# Altium schematic symbol library Cole_.SchLib: 330 symbols (part 3 of 10)
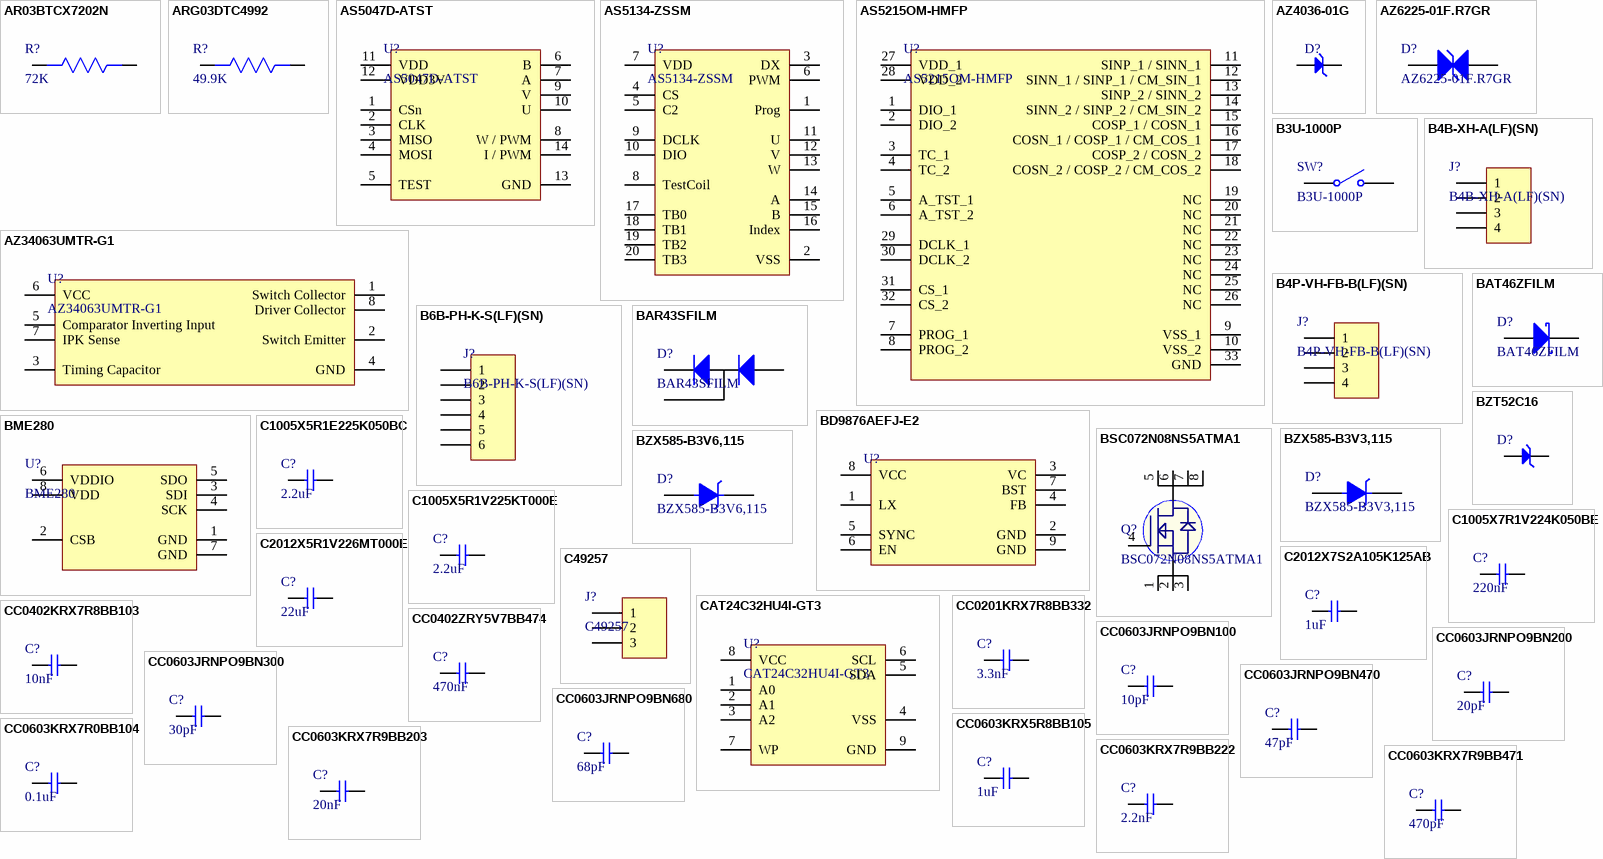
[diagram p10: symbols AR03BTCX7202N to CC0603KRX7R9BB471]

## CC0603KRX7R9BB203
designator C?, comment 20nF
CAP CER 0.02uF 50V X7R 10% SMD 0603 125°C Paper T/R; Manufacturer: Yageo; Manufacturer Part Number: CC0603KRX7R9BB203; Supplier 1: Digi-Key; RoHS: Yes; Category: Ceramic Capacitors; Stock 1: 39135; Pricing 1: 1=0.11000, 10=0.07900, 50=0.04480, 100=0.03720, 500=0.02606, 1000=0.02158 (USD); Mount: Surface Mount; Case/Package: 0603; Min Operating Temperature: -55°C; Max Operating Temperature: 125°C; Voltage Rating: 50V; Voltage Rating (DC): 50V; Capacitance: 20nF; Tolerance: 10%; Packaging: Tape and Reel; Dielectric: X7R; Length: 0.063inch; Width: 0.031inch; Thickness: 0.035inch; Depth: 0.8mm; Lead Free: Lead Free; Halogen Free: Halogen Free; ComponentLink1URL: http://components.arrow.com/part/dataview/0323_00784838?src-supplier=Arrow+Europe; ComponentLink1Description: http://components.arrow.com/part/dataview/0323_00784838?src-supplier=Arrow+Europe; ComponentLink2URL: http://www.yageo.com/documents/recent/UPY-GPHC_X7R_6.3V-to-50V_18.pdf?src-supplier=Digi-Key; ComponentLink2Description: http://www.yageo.com/documents/recent/UPY-GPHC_X7R_6.3V-to-50V_18.pdf?src-supplier=Digi-Key; ComponentLink3URL: http://www.yageo.com/exep/pages/download/literatures/ProductSelectionGuide%202014_Final_2.pdf?src-supplier=Digi-Key; ComponentLink3Description: http://www.yageo.com/exep/pages/download/literatures/ProductSelectionGuide%202014_Final_2.pdf?src-supplier=Digi-Key; Supplier Part Number 1: 311-4099-1-ND
footprint Cap 0603
pins: 1, 2

## CC0603KRX7R9BB222
designator C?, comment 2.2nF
CAP CER 2200PF 50V X7R 0603; Manufacturer: Yageo; Manufacturer Part Number: CC0603KRX7R9BB222; Tolerance: 10%; Insulation Resistance: 10GR; Dissipation Factor: 2.5%; Supplier 1: RSComponents; RoHS: Yes; Category: Ceramic Capacitors; Stock 1: 1; Pricing 1: 4000=0.00500 (USD); Mount: Surface Mount; Case/Package: 0603; Number of Pins: 2; Case Code (Metric): 1608; Case Code (Imperial): 0603; Min Operating Temperature: -55°C; Max Operating Temperature: 125°C; Capacitance: 2.2nF; Dielectric: X7R; Package Quantity: 1; Voltage Rating: 50V; Packaging: Tape and Reel; Voltage Rating (DC): 50V; Termination: SMD/SMT; Resistor Type: Ceramic; Voltage: 50V; Series: CC; Length: 1.6mm; Width: 0.031inch; Height: 0.8mm; Thickness: 0.035inch; Depth: 0.8mm; Radiation Hardening: No; REACH SVHC: No SVHC; Lead Free: Lead Free; Halogen Free: Halogen Free; RoHS Compliant: Yes; ComponentLink1URL: https://datasheet.ciiva.com/23768/1079489-23768004.pdf?src-supplier=Newark; ComponentLink1Description: https://datasheet.ciiva.com/23768/1079489-23768004.pdf?src-supplier=Newark; ComponentLink2URL: https://datasheet.ciiva.com/11788/0900766b8079c870-11788403.pdf?src-supplier=RSComponents; ComponentLink2Description: https://datasheet.ciiva.com/11788/0900766b8079c870-11788403.pdf?src-supplier=RSComponents; ComponentLink3URL: https://datasheet.ciiva.com/26862/getdatasheetpartid-403587-26862854.pdf?src-supplier=Verical; ComponentLink3Description: https://datasheet.ciiva.com/26862/getdatasheetpartid-403587-26862854.pdf?src-supplier=Verical; ComponentLink4URL: https://datasheet.ciiva.com/8033/70765-8033863.pdf?src-supplier=Element14; ComponentLink4Description: https://datasheet.ciiva.com/8033/70765-8033863.pdf?src-supplier=Element14; ComponentLink5URL: https://datasheet.ciiva.com/7978/1489800-7978172.pdf?src-supplier=Element14; ComponentLink5Description: https://datasheet.ciiva.com/7978/1489800-7978172.pdf?src-supplier=Element14; ComponentLink6URL: https://datasheet.ciiva.com/28450/1489800-28450632.pdf?src-supplier=Element14; ComponentLink6Description: https://datasheet.ciiva.com/28450/1489800-28450632.pdf?src-supplier=Element14; ComponentLink7URL: https://datasheet.ciiva.com/155/mlccorderingcode-155921.pdf?src-supplier=Digi-Key; ComponentLink7Description: https://datasheet.ciiva.com/155/mlccorderingcode-155921.pdf?src-supplier=Digi-Key; ComponentLink8URL: https://datasheet.ciiva.com/155/mlccorderingcode-155920.pdf?src-supplier=Digi-Key; ComponentLink8Description: https://datasheet.ciiva.com/155/mlccorderingcode-155920.pdf?src-supplier=Digi-Key; ComponentLink9URL: https://datasheet.ciiva.com/155/mlccorderingcode-155922.pdf?src-supplier=Digi-Key; ComponentLink9Description: https://datasheet.ciiva.com/155/mlccorderingcode-155922.pdf?src-supplier=Digi-Key; ComponentLink10URL: https://datasheet.ciiva.com/8033/1489800-8033864.pdf?src-supplier=Element14; ComponentLink10Description: https://datasheet.ciiva.com/8033/1489800-8033864.pdf?src-supplier=Element14; ComponentLink11URL: https://datasheet.ciiva.com/8033/1489800-8033862.pdf?src-supplier=Element14; ComponentLink11Description: https://datasheet.ciiva.com/8033/1489800-8033862.pdf?src-supplier=Element14; ComponentLink12URL: https://datasheet.ciiva.com/16625/upy-gphc-x7r-6-3v-to-50v-8-16625531.pdf?src-supplier=Avnet+Europe; ComponentLink12Description: https://datasheet.ciiva.com/16625/upy-gphc-x7r-6-3v-to-50v-8-16625531.pdf?src-supplier=Avnet+Europe; Supplier Part Number 1: 6169509
footprint Cap 0603
pins: 1, 2

## CC0603KRX7R9BB471
designator C?, comment 470pF
CAP CER 470pF 10% X7R 50V 0603 SMD; Manufacturer: Yageo; Manufacturer Part Number: CC0603KRX7R9BB471; Dielectric Material: Ceramic; Insulation Resistance: 10GR; Dissipation Factor: 2.5%; Supplier 1: Digi-Key; RoHS: Yes; Category: Ceramic Capacitors; Stock 1: 2173; Pricing 1: 1=0.10000, 10=0.04500, 50=0.02460, 100=0.02010, 500=0.01432, 1000=0.01125 (USD); Mount: Surface Mount; Case/Package: 0603; Number of Pins: 2; Case Code (Imperial): 0603; Case Code (Metric): 1608; Min Operating Temperature: -55°C; Max Operating Temperature: 125°C; Capacitance: 470pF; Tolerance: 10%; Dielectric: X7R; Series: CC; Voltage Rating: 50V; Voltage Rating (DC): 50V; Packaging: Tape and Reel; Package Quantity: 1; Termination: SMD/SMT; Resistor Type: Ceramic; Length: 1.6mm; Width: 0.8mm; Height: 0.8mm; Depth: 0.8mm; Thickness: 0.035inch; Radiation Hardening: No; RoHS Compliant: Yes; REACH SVHC: No SVHC; Lead Free: Lead Free; Halogen Free: Halogen Free; ComponentLink1URL: https://datasheet.ciiva.com/5425/upy-gphc-x7r-6-3v-to-50v-8-12304-5425461.pdf?src-supplier=Mouser; ComponentLink1Description: https://datasheet.ciiva.com/5425/upy-gphc-x7r-6-3v-to-50v-8-12304-5425461.pdf?src-supplier=Mouser; ComponentLink2URL: https://datasheet.ciiva.com/144/mlccorderingcode-144439.pdf?src-supplier=Digi-Key; ComponentLink2Description: https://datasheet.ciiva.com/144/mlccorderingcode-144439.pdf?src-supplier=Digi-Key; ComponentLink3URL: https://datasheet.ciiva.com/144/mlccorderingcode-144440.pdf?src-supplier=Digi-Key; ComponentLink3Description: https://datasheet.ciiva.com/144/mlccorderingcode-144440.pdf?src-supplier=Digi-Key; ComponentLink4URL: https://datasheet.ciiva.com/11587/upy-gphc-x7r-6-3v-to-50v-8-11587224.pdf?src-supplier=Avnet; ComponentLink4Description: https://datasheet.ciiva.com/11587/upy-gphc-x7r-6-3v-to-50v-8-11587224.pdf?src-supplier=Avnet; ComponentLink5URL: https://datasheet.ciiva.com/144/mlccorderingcode-144441.pdf?src-supplier=Digi-Key; ComponentLink5Description: https://datasheet.ciiva.com/144/mlccorderingcode-144441.pdf?src-supplier=Digi-Key; ComponentLink6URL: https://datasheet.ciiva.com/16623/upy-gphc-x7r-6-3v-to-50v-8-16623897.pdf?src-supplier=Avnet+Europe; ComponentLink6Description: https://datasheet.ciiva.com/16623/upy-gphc-x7r-6-3v-to-50v-8-16623897.pdf?src-supplier=Avnet+Europe; ComponentLink7URL: https://datasheet.ciiva.com/8033/1489800-8033898.pdf?src-supplier=Element14; ComponentLink7Description: https://datasheet.ciiva.com/8033/1489800-8033898.pdf?src-supplier=Element14; ComponentLink8URL: https://datasheet.ciiva.com/8033/1489800-8033899.pdf?src-supplier=Element14; ComponentLink8Description: https://datasheet.ciiva.com/8033/1489800-8033899.pdf?src-supplier=Element14; ComponentLink9URL: https://datasheet.ciiva.com/26829/getdatasheetpartid-251791-26829452.pdf?src-supplier=Verical; ComponentLink9Description: https://datasheet.ciiva.com/26829/getdatasheetpartid-251791-26829452.pdf?src-supplier=Verical; ComponentLink10URL: https://datasheet.ciiva.com/28450/1489800-28450652.pdf?src-supplier=Element14; ComponentLink10Description: https://datasheet.ciiva.com/28450/1489800-28450652.pdf?src-supplier=Element14; ComponentLink11URL: https://datasheet.ciiva.com/8033/70765-8033902.pdf?src-supplier=Element14; ComponentLink11Description: https://datasheet.ciiva.com/8033/70765-8033902.pdf?src-supplier=Element14; Supplier Part Number 1: 311-1078-1-ND
footprint Cap 0603
pins: 1, 2

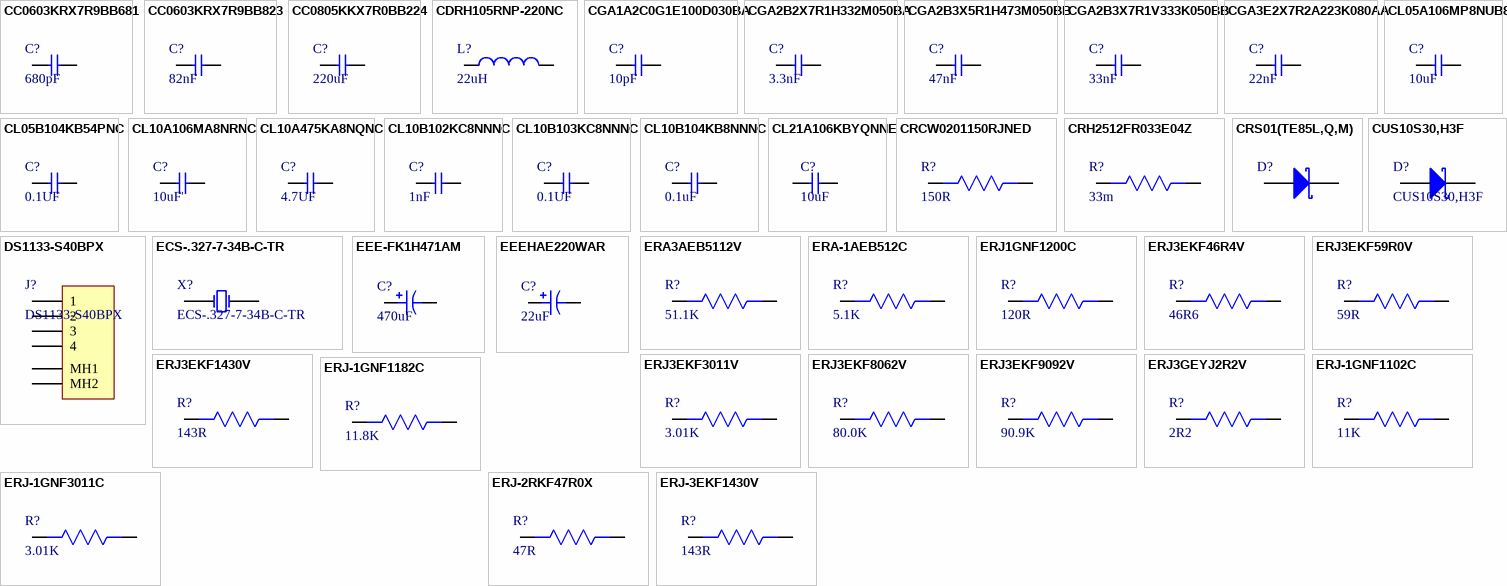
[diagram p2: symbols CC0603KRX7R9BB681 to ERJ-3EKF1430V]

## CC0603KRX7R9BB681
designator C?, comment 680pF
CAP CER 680pF 50 V 0603; Manufacturer: Yageo; Manufacturer Part Number: CC0603KRX7R9BB681; Dielectric Material: Ceramic; Tolerance: 10%; Dielectric: X7R; Voltage Rating: 50V; Insulation Resistance: 100GR; Supplier 1: Digi-Key; RoHS: Yes; Category: Ceramic Capacitors; Stock 1: 134616; Pricing 1: 1=0.10000, 10=0.04700, 50=0.02560, 100=0.02100, 500=0.01498, 1000=0.01176 (USD); Mount: Surface Mount; Case/Package: 0603; Case Code (Imperial): 0603; Case Code (Metric): 1608; Min Operating Temperature: -55°C; Max Operating Temperature: 125°C; Capacitance: 680pF; Voltage Rating (DC): 50V; Packaging: Tape and Reel; Package Quantity: 1; Termination: SMD/SMT; Resistor Type: Ceramic; Voltage: 50V; Series: CC; Length: 1.6mm; Width: 0.8mm; Height: 0.8mm; Thickness: 0.035inch; Depth: 0.8mm; Radiation Hardening: No; REACH SVHC: Unknown; Lead Free: Lead Free; Halogen Free: Halogen Free; RoHS Compliant: Yes; ComponentLink1URL: https://datasheet.ciiva.com/11786/0900766b80d84f1d-11786210.pdf?src-supplier=RSComponents; ComponentLink1Description: https://datasheet.ciiva.com/11786/0900766b80d84f1d-11786210.pdf?src-supplier=RSComponents; ComponentLink2URL: https://datasheet.ciiva.com/144/mlccorderingcode-144469.pdf?src-supplier=Digi-Key; ComponentLink2Description: https://datasheet.ciiva.com/144/mlccorderingcode-144469.pdf?src-supplier=Digi-Key; ComponentLink3URL: https://datasheet.ciiva.com/144/mlccorderingcode-144470.pdf?src-supplier=Digi-Key; ComponentLink3Description: https://datasheet.ciiva.com/144/mlccorderingcode-144470.pdf?src-supplier=Digi-Key; ComponentLink4URL: https://datasheet.ciiva.com/17434/upy-gphc-x7r-6-3v-to-50v-8-17434486.pdf?src-supplier=Avnet+Europe; ComponentLink4Description: https://datasheet.ciiva.com/17434/upy-gphc-x7r-6-3v-to-50v-8-17434486.pdf?src-supplier=Avnet+Europe; ComponentLink5URL: https://datasheet.ciiva.com/144/mlccorderingcode-144471.pdf?src-supplier=Digi-Key; ComponentLink5Description: https://datasheet.ciiva.com/144/mlccorderingcode-144471.pdf?src-supplier=Digi-Key; Supplier Part Number 1: 311-1188-1-ND
footprint Cap 0603
pins: 1, 2

## CC0603KRX7R9BB823
designator C?, comment 82nF
CAP CER 0.082UF 50V X7R 0603; Manufacturer: Yageo; Manufacturer Part Number: CC0603KRX7R9BB823; Tolerance: 10%; Supplier 1: Newark; RoHS: Yes; Category: Ceramic Capacitors; Stock 1: 40000; Pricing 1: 1=0.01500, 4000=0.01400, 8000=0.01400 (USD); Mount: Surface Mount; Case/Package: 0603; Case Code (Imperial): 0603; Case Code (Metric): 1608; Weight: 7.1E-05oz; Min Operating Temperature: -55°C; Max Operating Temperature: 125°C; Packaging: Tape and Reel; Capacitance: 82nF; Voltage Rating (DC): 50V; Dielectric: X7R; Voltage Rating: 50V; Termination: SMD/SMT; Resistor Type: Ceramic; Series: CC; Length: 1.6mm; Width: 0.031inch; Thickness: 0.035inch; Depth: 0.8mm; Radiation Hardening: No; Lead Free: Lead Free; Halogen Free: Halogen Free; RoHS Compliant: Yes; ComponentLink1URL: https://datasheet.ciiva.com/13264/upy-gphc-x7r-6-3v-to-50v-8-12304-13264057.pdf?src-supplier=Mouser; ComponentLink1Description: https://datasheet.ciiva.com/13264/upy-gphc-x7r-6-3v-to-50v-8-12304-13264057.pdf?src-supplier=Mouser; Supplier Part Number 1: 69AH7269
footprint Cap 0603
pins: 1, 2

## CC0805KKX7R0BB224
designator C?, comment 220uF
CAP CER 0.22UF 100V X7R 0805; Manufacturer: Yageo; Manufacturer Part Number: CC0805KKX7R0BB224; Capacitance: 220nF; Tolerance: 10%; Supplier 1: Digi-Key; RoHS: Yes; Category: Ceramic Capacitors; Stock 1: 27325; Pricing 1: 1=0.31000, 10=0.21000, 50=0.13980, 100=0.11890, 500=0.08390, 1000=0.07342 (USD); Mount: Surface Mount; Case/Package: 0805; Case Code (Metric): 2012; Case Code (Imperial): 0805; Weight: 0.000194oz; Min Operating Temperature: -55°C; Max Operating Temperature: 125°C; Packaging: Tape and Reel; Voltage Rating: 100V; Dielectric: X7R; Termination: SMD/SMT; Resistor Type: Ceramic; Voltage Rating (DC): 100V; Package Quantity: 3000; Length: 0.079inch; Width: 0.049inch; Thickness: 0.028inch; RoHS Compliant: Yes; ComponentLink1URL: http://www.mouser.com/ds/2/447/Yageo_UPY-GP_NP0_16V-to-50V_9-358835.pdf?src-supplier=Mouser; ComponentLink1Description: http://www.mouser.com/ds/2/447/Yageo_UPY-GP_NP0_16V-to-50V_9-358835.pdf?src-supplier=Mouser; ComponentLink2URL: https://media.digikey.com/pdf/Data%20Sheets/Yageo%20PDFs/NPO,%20X7R%20Mid-voltage.pdf?src-supplier=Digi-Key; ComponentLink2Description: https://media.digikey.com/pdf/Data%20Sheets/Yageo%20PDFs/NPO,%20X7R%20Mid-voltage.pdf?src-supplier=Digi-Key; ComponentLink3URL: http://www.yageo.com/documents/recent/UPY-NP0X7R_MV_100-to-630V_21.pdf?src-supplier=Digi-Key; ComponentLink3Description: http://www.yageo.com/documents/recent/UPY-NP0X7R_MV_100-to-630V_21.pdf?src-supplier=Digi-Key; Supplier Part Number 1: 311-1874-1-ND
footprint Cap0805 (SMD 0805)
pins: 1, 2

## CDRH105RNP-220NC
designator L?, comment 22uH
IND SMD 22uH 30% 100KHz Ferrite 3.3AA Carrier T/R; Manufacturer: Sumida; Manufacturer Part Number: CDRH105RNP-220NC; Shielding: Shielded; Current Rating: 2.9A; Saturation Current: 2.95A; DC Resistance (DCR): 61mR; Supplier 1: Avnet; RoHS: Yes; Category: Fixed Inductors; Stock 1: 9500; Pricing 1: 500=0.75567, 1000=0.74988, 2000=0.74408, 3000=0.74215, 4000=0.74022, 5000=0.73752, 50000=0.73405 (USD); Mount: Surface Mount; Case/Package: Nonstandard; Core Material: Ferrite; Weight: 0.063493oz; Min Operating Temperature: -40°C; Max Operating Temperature: 100°C; Packaging: Tape and Reel; Tolerance: 30%; Inductance: 22uH; Test Frequency: 100kHz; Max DC Current: 2.9A; Termination: SMD/SMT; Series: CDRH105R; Length: 0.402inch; Width: 0.394inch; Height: 5.1mm; Height - Seated (Max): 0.201inch; Depth: 10.3mm; Radiation Hardening: No; Lead Free: Lead Free; RoHS Compliant: Yes; ComponentLink1URL: http://www.mouser.com/ds/2/390/CDRH105R-465909.pdf?src-supplier=Mouser; ComponentLink1Description: http://www.mouser.com/ds/2/390/CDRH105R-465909.pdf?src-supplier=Mouser; ComponentLink2URL: http://products.sumida.com/products/pdf/CDRH105R.pdf?src-supplier=Digi-Key; ComponentLink2Description: http://products.sumida.com/products/pdf/CDRH105R.pdf?src-supplier=Digi-Key; ComponentLink3URL: http://www.sumida.com/products/pdf/CDRH105R.pdf?src-supplier=Avnet; ComponentLink3Description: http://www.sumida.com/products/pdf/CDRH105R.pdf?src-supplier=Avnet; Supplier Part Number 1: CDRH105RNP-220NC
footprint CDRH105RNP-220NC
pins: 1, 2

## CGA1A2C0G1E100D030BA
designator C?, comment 10pF
CAP CER 10PF 25V C0G 0201; Manufacturer: TDK; Manufacturer Part Number: CGA1A2C0G1E100D030BA; Supplier 1: Digi-Key; RoHS: Yes; Category: Ceramic Capacitors; Stock 1: 28695; Pricing 1: 1=0.11000, 10=0.07900, 50=0.04340, 100=0.03540, 500=0.02530, 1000=0.01987, 2500=0.01807, 5000=0.01662 (USD); Mount: Surface Mount; Case/Package: 0201; Case Code (Imperial): 0201; Case Code (Metric): 0603; Weight: 6E-06oz; Min Operating Temperature: -55°C; Max Operating Temperature: 125°C; Packaging: Tape and Reel; Capacitance: 10pF; Voltage Rating: 25V; Termination: SMD/SMT; Voltage Rating (DC): 25V; Package Quantity: 1; Dielectric: C0G; Resistor Type: Ceramic; Series: CGA; Length: 0.6mm; Width: 0.3mm; Height: 0.3mm; Thickness: 0.013inch; Depth: 0.3mm; Ratings: AEC-Q200; RoHS Compliant: Yes; ComponentLink1URL: https://datasheet.ciiva.com/24220/cga1a2c0g1e100d030ba-271838-24220873.pdf?src-supplier=Mouser; ComponentLink1Description: https://datasheet.ciiva.com/24220/cga1a2c0g1e100d030ba-271838-24220873.pdf?src-supplier=Mouser; Supplier Part Number 1: 445-9023-1-ND
footprint CAP 0201
pins: 1, 2

## CGA2B2X7R1H332M050BA
designator C?, comment 3.3nF
CAP CER 3300PF 50V X7R 0402; Manufacturer: TDK; Manufacturer Part Number: CGA2B2X7R1H332M050BA; Tolerance: 20%; Supplier 1: Digi-Key; RoHS: Yes; Category: Ceramic Capacitors; Stock 1: 30365; Pricing 1: 1=0.10000, 10=0.05400, 50=0.02960, 100=0.02430, 500=0.01732, 1000=0.01361, 2500=0.01238, 5000=0.01138 (USD); Mount: Surface Mount; Case/Package: 0402; Case Code (Metric): 1005; Case Code (Imperial): 0402; Min Operating Temperature: -55°C; Max Operating Temperature: 125°C; Package Quantity: 10000; Packaging: Tape and Reel; Capacitance: 3.3nF; Voltage Rating: 50V; Series: CGA; Length: 0.039inch; Width: 0.02inch; Thickness: 0.022inch; Ratings: AEC-Q200; RoHS Compliant: Yes; ComponentLink1URL: https://product.tdk.com/info/en/documents/chara_sheet/CGA2B2X7R1H332M050BA.pdf?src-supplier=Digi-Key; ComponentLink1Description: https://product.tdk.com/info/en/documents/chara_sheet/CGA2B2X7R1H332M050BA.pdf?src-supplier=Digi-Key; ComponentLink2URL: https://product.tdk.com/info/en/catalog/datasheets/mlcc_automotive_general_en.pdf?src-supplier=Digi-Key; ComponentLink2Description: https://product.tdk.com/info/en/catalog/datasheets/mlcc_automotive_general_en.pdf?src-supplier=Digi-Key; ComponentLink3URL: http://product.tdk.com/en/catalog/datasheets/mlcc_automotive_general_en.pdf?src-supplier=Avnet; ComponentLink3Description: http://product.tdk.com/en/catalog/datasheets/mlcc_automotive_general_en.pdf?src-supplier=Avnet; Supplier Part Number 1: 445-12276-1-ND
footprint Cap 0402
pins: 1, 2

## CGA2B3X5R1H473M050BB
designator C?, comment 47nF
CAP CER 0.047UF 50V X5R 0402; Manufacturer: TDK; Manufacturer Part Number: CGA2B3X5R1H473M050BB; Tolerance: 20%; Supplier 1: Digi-Key; RoHS: Yes; Category: Ceramic Capacitors; Stock 1: 10614; Pricing 1: 1=0.10000, 10=0.06800, 50=0.03700, 100=0.03020, 500=0.02156, 1000=0.01694, 2500=0.01540, 5000=0.01417 (USD); Mount: Surface Mount; Case/Package: 0402; Case Code (Metric): 1005; Case Code (Imperial): 0402; Weight: 2.3E-05oz; Min Operating Temperature: -55°C; Max Operating Temperature: 85°C; Package Quantity: 10000; Packaging: Tape and Reel; Capacitance: 47nF; Voltage Rating: 50V; Dielectric: X5R; Voltage Rating (DC): 50V; Series: CGA; Length: 0.039inch; Width: 0.5mm; Height: 0.5mm; Thickness: 0.022inch; Ratings: AEC-Q200; RoHS Compliant: Yes; ComponentLink1URL: http://www.mouser.com/ds/2/400/lcc_automotive_general_en-843974.pdf?src-supplier=Mouser; ComponentLink1Description: http://www.mouser.com/ds/2/400/lcc_automotive_general_en-843974.pdf?src-supplier=Mouser; ComponentLink2URL: https://product.tdk.com/info/en/catalog/datasheets/mlcc_automotive_general_en.pdf?src-supplier=Digi-Key; ComponentLink2Description: https://product.tdk.com/info/en/catalog/datasheets/mlcc_automotive_general_en.pdf?src-supplier=Digi-Key; ComponentLink3URL: http://product.tdk.com/en/catalog/datasheets/mlcc_automotive_general_en.pdf?src-supplier=Avnet; ComponentLink3Description: http://product.tdk.com/en/catalog/datasheets/mlcc_automotive_general_en.pdf?src-supplier=Avnet; Supplier Part Number 1: 445-12210-1-ND
footprint Cap 0402
pins: 1, 2

## CGA2B3X7R1V333K050BB
designator C?, comment 33nF
CAP CER 0.033UF 35V X7R 0402; Manufacturer: TDK; Manufacturer Part Number: CGA2B3X7R1V333K050BB; Tolerance: 10%; Item Type: Capacitor; Supplier: Digi-Key; Supplier Part Number: 445-12258-1-ND; RoHS: Yes; Category: Ceramic Capacitors; Stock: 24079; Pricing: 1=0.1, 10=0.07, 50=0.0402, 100=0.0311, 500=0.02344, 1000=0.01841, 2500=0.01674, 5000=0.0154 (USD); Mounting Technology: Surface Mount; Case/Package: 0402; Case Code (Metric): 1005; Case Code (Imperial): 0402; Min Operating Temperature: -55°C; Max Operating Temperature: 125°C; Package Quantity: 10000; Packaging: Cut Tape; Value: 33nF; Voltage Rating: 35V; Series: CGA; Length: 0.039inch; Width: 0.02inch; Thickness: 0.022inch; Ratings: AEC-Q200; RoHS Compliant: Yes; ComponentLink1URL: https://product.tdk.com/info/en/catalog/datasheets/mlcc_automotive_general_en.pdf?src-supplier=Digi-Key; ComponentLink1Description: https://product.tdk.com/info/en/catalog/datasheets/mlcc_automotive_general_en.pdf?src-supplier=Digi-Key; ComponentLink2URL: https://product.tdk.com/info/en/documents/chara_sheet/CGA2B3X7R1V333K050BB.pdf?src-supplier=Digi-Key; ComponentLink2Description: https://product.tdk.com/info/en/documents/chara_sheet/CGA2B3X7R1V333K050BB.pdf?src-supplier=Digi-Key; ComponentLink3URL: http://product.tdk.com/en/catalog/datasheets/mlcc_automotive_general_en.pdf?src-supplier=Avnet; ComponentLink3Description: http://product.tdk.com/en/catalog/datasheets/mlcc_automotive_general_en.pdf?src-supplier=Avnet; LCSC Part Number: C3871248
footprint Cap 0402
pins: 1, 2

## CGA3E2X7R2A223K080AA
designator C?, comment 22nF
CAP CER 0.022UF 100V X7R 0603; Manufacturer: TDK; Manufacturer Part Number: CGA3E2X7R2A223K080AA; Tolerance: 10%; Supplier 1: Digi-Key; RoHS: Yes; Category: Ceramic Capacitors; Stock 1: 56079; Pricing 1: 1=0.11000, 10=0.07600, 50=0.04340, 100=0.03590, 500=0.02516, 1000=0.02083 (USD); Mount: Surface Mount; Case/Package: 0603; Case Code (Metric): 1608; Case Code (Imperial): 0603; Weight: 7.1E-05oz; Min Operating Temperature: -55°C; Max Operating Temperature: 125°C; Capacitance: 22nF; Voltage Rating: 100V; Packaging: Tape and Reel; Voltage Rating (DC): 100V; Dielectric: X7R; Termination: SMD/SMT; Series: CGA; Package Quantity: 1; Resistor Type: Ceramic; Length: 1.6mm; Width: 0.031inch; Height: 0.8mm; Thickness: 0.035inch; Depth: 0.8mm; Ratings: AEC-Q200; RoHS Compliant: Yes; REACH SVHC: No SVHC; ComponentLink1URL: https://datasheet.ciiva.com/22725/1735406-22725648.pdf?src-supplier=Element14; ComponentLink1Description: https://datasheet.ciiva.com/22725/1735406-22725648.pdf?src-supplier=Element14; ComponentLink2URL: https://datasheet.ciiva.com/24218/cga3e2x7r2a223k080aa-266292-24218959.pdf?src-supplier=Mouser; ComponentLink2Description: https://datasheet.ciiva.com/24218/cga3e2x7r2a223k080aa-266292-24218959.pdf?src-supplier=Mouser; ComponentLink3URL: https://datasheet.ciiva.com/7975/1807242-7975349.pdf?src-supplier=Element14; ComponentLink3Description: https://datasheet.ciiva.com/7975/1807242-7975349.pdf?src-supplier=Element14; Supplier Part Number 1: 445-5814-1-ND
footprint Cap 0603
pins: 1, 2

## CL05A106MP8NUB8
designator C?, comment 10uF
CAP CER 10UF 10V X5R 0402; Manufacturer: Samsung; Manufacturer Part Number: CL05A106MP8NUB8; Tolerance: 20%; Supplier 1: Digi-Key; Stock 1: 1158256; Pricing 1: 1=0.45, 10=0.311, 100=0.1863, 500=0.13972, 1000=0.11799, 2500=0.11178 (USD); Mount: Surface Mount; Case/Package: 0402; Case Code (Metric): 1005; Case Code (Imperial): 0402; Min Operating Temperature: -55°C; Max Operating Temperature: 85°C; Packaging: Tape and Reel; Capacitance: 10uF; Voltage Rating: 10V; Length: 0.039inch; Width: 0.02inch; Thickness: 0.035inch; Supplier Part Number 1: 1276-6830-1-ND
footprint Cap 0402
pins: 1, 2

## CL05B104KB54PNC
designator C?, comment 0.1UF
CAP CER 0.1UF 50V X7R 0402; Manufacturer: Samsung; Manufacturer Part Number: CL05B104KB54PNC; Supplier 1: Digi-Key; Stock 1: 8594; Pricing 1: 1=0.1, 10=0.067, 50=0.0366, 100=0.0299, 500=0.02138, 1000=0.01681, 2500=0.01528, 5000=0.01406 (USD); Supplier Part Number 1: 1276-CL05B104KB54PNCDKR-ND
footprint Cap 0402
pins: 1, 2

## CL10A106MA8NRNC
designator C?, comment 10uF'
CAP CER 10UF 25V X5R 0603; Manufacturer: Samsung; Manufacturer Part Number: CL10A106MA8NRNC; Tolerance: 20%; Supplier 1: Avnet; RoHS: Yes; Category: Ceramic Capacitors; Pricing 1: 4000=0.03753, 8000=0.03700, 16000=0.03595, 24000=0.03515, 32000=0.03383, 40000=0.03304, 400000=0.03225 (USD); Mount: Surface Mount; Case/Package: 0603; Case Code (Metric): 1608; Case Code (Imperial): 0603; Contact Plating: Tin; Min Operating Temperature: -55°C; Max Operating Temperature: 85°C; Package Quantity: 1; Packaging: Tape and Reel; Capacitance: 10uF; Voltage Rating: 25V; Dielectric: X5R; Termination: Wraparound; Series: CL; Construction: Flat; Length: 0.063inch; Width: 0.031inch; Thickness: 0.035inch; Lead Free: Lead Free; RoHS Compliant: Yes; ComponentLink1URL: https://datasheet.ciiva.com/25766/cl10a106ma8nrnc-25766562.pdf?src-supplier=Digi-Key; ComponentLink1Description: https://datasheet.ciiva.com/25766/cl10a106ma8nrnc-25766562.pdf?src-supplier=Digi-Key; Supplier Part Number 1: CL10A106MA8NRNC
footprint Cap 0603
pins: 1, 2

## CL10A475KA8NQNC
designator C?, comment 4.7UF
CAP CER 4.7UF 25V X5R 0603; Manufacturer: Samsung; Manufacturer Part Number: CL10A475KA8NQNC; Tolerance: 10%; Supplier 1: Digi-Key; Stock 1: 2252340; Pricing 1: 1=0.37, 10=0.255, 100=0.1528, 500=0.11456, 1000=0.09675 (USD); Mount: Surface Mount; Case/Package: 0603; Case Code (Metric): 1608; Case Code (Imperial): 0603; Contact Plating: Tin; Min Operating Temperature: -55°C; Max Operating Temperature: 85°C; Package Quantity: 1; Packaging: Tape and Reel; Capacitance: 4.7uF; Voltage Rating: 25V; Dielectric: X5R; Termination: Wraparound; Length: 1.6mm; Width: 0.031inch; Thickness: 0.035inch; Depth: 0.8mm; Lead Free: Lead Free; ComponentLink1URL: http://www.samsungsem.com/kr/support/product-search/mlcc/CL10A475KA8NQNC.jsp?src-supplier=Digi-Key; ComponentLink1Description: http://www.samsungsem.com/kr/support/product-search/mlcc/CL10A475KA8NQNC.jsp?src-supplier=Digi-Key; Supplier Part Number 1: 1276-1900-1-ND
footprint Cap 0603
pins: 1, 2

## CL10B102KC8NNNC
designator C?, comment 1nF
CAP CER 1nF 100V X7R 0603; Manufacturer: Samsung; Manufacturer Part Number: CL10B102KC8NNNC; Material: Ceramic; Tolerance: 10%; Supplier 1: Avnet; RoHS: Yes; Category: Ceramic Capacitors; Stock 1: 184000; Pricing 1: 4000=0.00988, 8000=0.00987, 16000=0.00986, 24000=0.00985, 32000=0.00984, 40000=0.00982, 400000=0.00981 (USD); Mount: Surface Mount; Case/Package: 0603; Case Code (Metric): 1608; Case Code (Imperial): 0603; Contact Plating: Tin; Min Operating Temperature: -55°C; Max Operating Temperature: 125°C; Capacitance: 1nF; Dielectric: X7R; Packaging: Tape and Reel; Package Quantity: 1; Voltage Rating: 100V; Voltage: 100V; Voltage Rating (DC): 100V; Series: CL; Construction: Flat; Length: 1.6mm; Width: 0.031inch; Height: 0.8mm; Thickness: 0.035inch; Depth: 0.8mm; Radiation Hardening: No; Lead Free: Lead Free; RoHS Compliant: Yes; ComponentLink1URL: https://datasheet.ciiva.com/25799/cl10b102kc8nnnc-25799476.pdf?src-supplier=Digi-Key; ComponentLink1Description: https://datasheet.ciiva.com/25799/cl10b102kc8nnnc-25799476.pdf?src-supplier=Digi-Key; ComponentLink2URL: https://datasheet.ciiva.com/29198/458286-da-01-en-vs-kondensator-0603-29198496.pdf?src-supplier=Conrad; ComponentLink2Description: https://datasheet.ciiva.com/29198/458286-da-01-en-vs-kondensator-0603-29198496.pdf?src-supplier=Conrad; ComponentLink3URL: https://datasheet.ciiva.com/26838/getdatasheetpartid-640779-26838395.pdf?src-supplier=Verical; ComponentLink3Description: https://datasheet.ciiva.com/26838/getdatasheetpartid-640779-26838395.pdf?src-supplier=Verical; ComponentLink4URL: https://datasheet.ciiva.com/26310/mlcc-catalogdownload2013-eng-26310266.pdf?src-supplier=Distrelec; ComponentLink4Description: https://datasheet.ciiva.com/26310/mlcc-catalogdownload2013-eng-26310266.pdf?src-supplier=Distrelec; ComponentLink5URL: https://datasheet.ciiva.com/16199/cl05b104kq5nnnc-16199246.pdf?src-supplier=Future+Electronics; ComponentLink5Description: https://datasheet.ciiva.com/16199/cl05b104kq5nnnc-16199246.pdf?src-supplier=Future+Electronics; Supplier Part Number 1: CL10B102KC8NNNC
footprint Cap 0603
pins: 1, 2

## CL10B103KC8NNNC
designator C?, comment 0.1UF
CAP CER 10000PF 100V X7R 0603; Manufacturer: Samsung; Manufacturer Part Number: CL10B103KC8NNNC; Material: Ceramic; Tolerance: 10%; Capacitance: 10nF; Supplier 1: Digi-Key; RoHS: Yes; Category: Ceramic Capacitors; Stock 1: 52; Pricing 1: 1=0.10000, 10=0.03700, 50=0.02040, 100=0.01660, 500=0.01188, 1000=0.00933 (USD); Mount: Surface Mount; Case/Package: 0603; Case Code (Metric): 1608; Case Code (Imperial): 0603; Min Operating Temperature: -55°C; Max Operating Temperature: 125°C; Dielectric: X7R; Packaging: Tape and Reel; Package Quantity: 1; Voltage Rating: 100V; Voltage: 100V; Voltage Rating (DC): 100V; Series: CL; Construction: Flat; Length: 1.6mm; Width: 0.031inch; Height: 0.8mm; Thickness: 0.035inch; Depth: 0.8mm; Radiation Hardening: No; Lead Free: Lead Free; RoHS Compliant: Yes; ComponentLink1URL: https://datasheet.ciiva.com/16500/cl10b103kc8nnnc-16500694.pdf?src-supplier=Future+Electronics; ComponentLink1Description: https://datasheet.ciiva.com/16500/cl10b103kc8nnnc-16500694.pdf?src-supplier=Future+Electronics; ComponentLink2URL: https://datasheet.ciiva.com/26877/getdatasheetpartid-642109-26877899.pdf?src-supplier=Verical; ComponentLink2Description: https://datasheet.ciiva.com/26877/getdatasheetpartid-642109-26877899.pdf?src-supplier=Verical; ComponentLink3URL: https://datasheet.ciiva.com/29198/457441-da-01-en-vs-kondensator-0603-29198642.pdf?src-supplier=Conrad; ComponentLink3Description: https://datasheet.ciiva.com/29198/457441-da-01-en-vs-kondensator-0603-29198642.pdf?src-supplier=Conrad; Supplier Part Number 1: 1276-1196-1-ND
footprint Cap 0603
pins: 1, 2

## CL10B104KB8NNNC
designator C?, comment 0.1uF
Cap Ceramic 0.1uF 50VDC X7R 10% SMD 0603 Paper T/R; Manufacturer: Samsung; Manufacturer Part Number: CL10B104KB8NNNC; Capacitance: 100nF; Voltage Rating: 50V; Supplier 1: Digi-Key; RoHS: Yes; Category: Ceramic Capacitors; Stock 1: 3998791; Pricing 1: 1=0.10000, 10=0.03000, 50=0.01640, 100=0.01340, 500=0.00954, 1000=0.00750 (USD); Mount: Surface Mount; Case/Package: 0603; Case Code (Metric): 1608; Case Code (Imperial): 0603; Material: Ceramic; Contact Plating: Tin; Min Operating Temperature: -55°C; Max Operating Temperature: 125°C; Dielectric: X7R; Tolerance: 10%; Package Quantity: 1; Packaging: Tape and Reel; Voltage: 50V; Voltage Rating (DC): 50V; Series: CL; Construction: Flat; Length: 1.6mm; Width: 0.031inch; Height: 0.8mm; Depth: 0.8mm; Thickness: 0.035inch; Radiation Hardening: No; Lead Free: Lead Free; RoHS Compliant: Yes; ComponentLink1URL: https://datasheet.ciiva.com/25803/cl10b104kb8nnnc-25803393.pdf?src-supplier=Digi-Key; ComponentLink1Description: https://datasheet.ciiva.com/25803/cl10b104kb8nnnc-25803393.pdf?src-supplier=Digi-Key; ComponentLink2URL: https://datasheet.ciiva.com/26838/getdatasheetpartid-89097-26838411.pdf?src-supplier=Verical; ComponentLink2Description: https://datasheet.ciiva.com/26838/getdatasheetpartid-89097-26838411.pdf?src-supplier=Verical; ComponentLink3URL: https://datasheet.ciiva.com/29198/456651-da-01-en-vs-kondensator-0605-29198839.pdf?src-supplier=Conrad; ComponentLink3Description: https://datasheet.ciiva.com/29198/456651-da-01-en-vs-kondensator-0605-29198839.pdf?src-supplier=Conrad; Supplier Part Number 1: 1276-1000-1-ND
footprint Cap 0603
pins: 1, 2

## CL21A106KBYQNNE
designator C?, comment 10uF
CAP CER 10UF 50V X5R 0805; Manufacturer: Samsung; Manufacturer Part Number: CL21A106KBYQNNE; Material: 4241ConductorMaterial; Tolerance: 10%; Item Type: Capacitor; Supplier: Mouser; Supplier Part Number: 187-CL21A106KBYQNNE; RoHS: Yes; Category: Ceramic Capacitors; Stock: 5066; Pricing: 1=0.4, 10=0.279, 50=0.279, 100=0.184, 1000=0.128, 10000=0.098 (USD); Case/Package: 339Case; Min Operating Temperature: -55°C; Max Operating Temperature: 85°C; Value: 10uF; Voltage Rating: 50V; Height: 1.45mm; RoHS Compliant: Yes; LCSC Part Number: C2932476
footprint Cap0805 (SMD 0805)
pins: 1, 2

## CRCW0201150RJNED
designator R?, comment 150R
RES SMD 150 OHM 5% 1/20W 0201; Manufacturer: Vishay Dale; Manufacturer Part Number: CRCW0201150RJNED; Power Rating: 50mW; Voltage Rating: 30V; Temperature Coefficient: 200ppm/°C; Supplier 1: Digi-Key; RoHS: Yes; Category: Chip SMD Resistors; Stock 1: 3951; Pricing 1: 1=0.10000, 10=0.04000, 100=0.01630, 1000=0.00731, 2500=0.00635, 5000=0.00524 (USD); Case/Package: 0201; Weight: 6E-06oz; Case Code (Imperial): 0201; Case Code (Metric): 0603; Contact Plating: Tin; Min Operating Temperature: -55°C; Max Operating Temperature: 155°C; Resistance: 150R; Tolerance: 5%; Packaging: Tape and Reel; Package Quantity: 10000; Resistor Type: Thick Film; Number of Terminations: 2; Max Power Dissipation: 50mW; Voltage Rating (DC): 30V; Series: CRCW; Length: 0.024inch; Width: 0.3mm; Height: 0.011inch; Radiation Hardening: No; Lead Free: Lead Free; RoHS Compliant: Yes; ComponentLink1URL: https://datasheet.ciiva.com/2574/crcw0201e3-2574858.pdf?src-supplier=Digi-Key; ComponentLink1Description: https://datasheet.ciiva.com/2574/crcw0201e3-2574858.pdf?src-supplier=Digi-Key; ComponentLink2URL: https://datasheet.ciiva.com/8969/crcw0201e3-8969802.pdf?src-supplier=Avnet; ComponentLink2Description: https://datasheet.ciiva.com/8969/crcw0201e3-8969802.pdf?src-supplier=Avnet; Supplier Part Number 1: 541-CRCW0201150RJNEDCT-ND
footprint Res-0201
pins: 1, 2

## CRH2512FR033E04Z
designator R?, comment 33m
0.033Ω  2512 Low Resistors & Current Sense Resistors - SMD; Manufacturer: Ever Ohms Tech; Tolerance: ±1%; Power (Watts): 2W; Temperature Coefficient: ±1800ppm/°C; Package: 2512; Resistance (Ohms): 0.033Ω
footprint RES 2512 (0.033O ±1% 2W ±1800ppm/°C 2512 Low Resistors & Current Sense Resistors - Surface Mount RoHS)
pins: 1, 2

## CRS01(TE85L,Q,M)
designator D?
DIODE SCHOTTKY 30V 1A SOD123F; Manufacturer: TOSHIBA; Manufacturer Part Number: CRS01(TE85L,Q,M); Supplier 1: Digi-Key; Stock 1: 72983; LCSC Part Number: C146292; Item Type: Diode
footprint CRS01(TE85L,Q,M) (DIODE SCHOTTKY 30V 1A SOD123F)
pins: 1 A, 2 K

## CUS10S30,H3F
designator D?
Diode Schottky 30V 1A Surface Mount USC; Manufacturer: Toshiba; Max Reverse Current: 500uA; Peak Non-Repetitive Surge Current: 5A; Element Configuration: Single; Supplier 1: Avnet; Manufacturer Part Number: CUS10S30,H3F; RoHS: Yes; Category: Rectifier Diodes; Stock 1: 9000; Pricing 1: 3000=0.04896, 6000=0.04768, 12000=0.04544, 18000=0.04416, 24000=0.04320, 30000=0.04192, 300000=0.04096 (USD); Mount: Surface Mount; Case/Package: SOD; Number of Pins: 2; Contact Plating: Tin,Silver; Min Operating Temperature: -55°C; Max Operating Temperature: 125°C; Packaging: Cut Tape; Average Rectified Current: 1A; Max Reverse Voltage (DC): 30V; RoHS Compliant: No; ComponentLink1URL: https://toshiba.semicon-storage.com/info/docget.jsp?did=14077&prodName=CUS10S30&src-supplier=Digi-Key; ComponentLink1Description: https://toshiba.semicon-storage.com/info/docget.jsp?did=14077&prodName=CUS10S30&src-supplier=Digi-Key; ComponentLink2URL: http://toshiba.semicon-storage.com/info/docget.jsp?did=14077&prodName=CUS10S30&src-supplier=Avnet; ComponentLink2Description: http://toshiba.semicon-storage.com/info/docget.jsp?did=14077&prodName=CUS10S30&src-supplier=Avnet; ComponentLink3URL: http://toshiba.semicon-storage.com/info/lookup.jsp?pid=CUS10S30&amp;lang=en&src-supplier=Mouser; ComponentLink3Description: http://toshiba.semicon-storage.com/info/lookup.jsp?pid=CUS10S30&amp;lang=en&src-supplier=Mouser; Supplier Part Number 1: CUS10S30,H3F
footprint CUS10S30,H3F
pins: 1 K, 2 A

## DS1133-S40BPX
designator J?
RJ11 4 1 Unshielded Through Hole Ethernet Connectors/Modular Connectors (RJ45 RJ11) RoHS; Manufacturer: CONNFLY Elec; Brand Category: Made In Asia Brands; Number of Positions: 4; Number of Ports: 1; Package: Through Hole; USOC Codes: RJ11; Shielding: Unshielded; Packaging: Tray
footprint DS1133-S40BPX (RJ11 4 1 Unshielded Through Hole Ethernet Connectors/Modular Connectors (RJ45 RJ11) RoHS)
pins: 1, 2, 3, 4, MH1, MH2

## ECS-.327-7-34B-C-TR
designator X?
Crystals 32.768KHz 7pF; Manufacturer: ECS International; ESR (Equivalent Series Resistance): 70kR; Frequency Tolerance: 10ppm; Supplier 1: Digi-Key; Manufacturer Part Number: ECS-.327-7-34B-C-TR; Stock 1: 27045; Pricing 1: 1=0.8, 10=0.708, 50=0.6622, 100=0.5852, 500=0.5544, 1000=0.462 (USD); Mount: Surface Mount; Case/Package: SMD/SMT; Number of Pins: 2; Min Operating Temperature: -40°C; Max Operating Temperature: 85°C; Frequency: 32.768kHz; Load Capacitance: 7pF; Package Quantity: 3000; Packaging: Tape and Reel; Termination: SMD/SMT; Frequency Stability: 10ppm; Length: 0.126inch; Height: 0.035inch; Width: 0.061inch; Lead Pitch: 2.4mm; ComponentLink1URL: https://datasheet.ciiva.com/12387/ecx-31b-15952-12387920.pdf; ComponentLink1Description: https://datasheet.ciiva.com/12387/ecx-31b-15952-12387920.pdf; ComponentLink2URL: https://datasheet.ciiva.com/15047/ecx-31b-15047071.pdf; ComponentLink2Description: https://datasheet.ciiva.com/15047/ecx-31b-15047071.pdf; Supplier Part Number 1: XC1948CT-ND
footprint ECS-.327-7-34B-C-TR (CRYSTAL 32.7680KHZ 12.5PF SMD)
pins: 1 OSC1, 2 OSC2

## EEE-FK1H471AM
designator C?, comment 470uF
CAP ALUM 470UF 20% 50V SMD; Manufacturer: Panasonic; Manufacturer Part Number: EEE-FK1H471AM; Ripple Current: 1.61A; Polarity: Polar; Life (Hours): 5000Hour; Dissipation Factor: 0.12%; ESR (Equivalent Series Resistance): 73mR; Supplier 1: Digi-Key; RoHS: Yes; Category: Aluminum Electrolytic Capacitors; Stock 1: 8; Pricing 1: 1=1.96000, 10=1.58300, 50=1.38140 (USD); Mount: Surface Mount,PCB; Case/Package: Radial; Min Operating Temperature: -55°C; Max Operating Temperature: 105°C; Capacitance: 470uF; Tolerance: 20%; Voltage Rating: 50V; Package Quantity: 125; Packaging: Tape and Reel; Voltage Rating (DC): 50V; Ripple Current (AC): 1.61A; Termination: SMD/SMT; Voltage: 50V; Series: FK; Construction: Cylindrical; Impedance: 73mR; Diameter: 16mm; Length: 16.5mm; Height: 16.5mm; Height - Seated (Max): 0.669inch; Radiation Hardening: No; REACH SVHC: No SVHC; Lead Free: Lead Free; RoHS Compliant: Yes; ComponentLink1URL: https://datasheet.ciiva.com/11783/0900766b80e4e801-11783535.pdf?src-supplier=RSComponents; ComponentLink1Description: https://datasheet.ciiva.com/11783/0900766b80e4e801-11783535.pdf?src-supplier=RSComponents; ComponentLink2URL: https://datasheet.ciiva.com/16394/aba0000ce88-16394005.pdf?src-supplier=Future+Electronics; ComponentLink2Description: https://datasheet.ciiva.com/16394/aba0000ce88-16394005.pdf?src-supplier=Future+Electronics; ComponentLink3URL: https://datasheet.ciiva.com/14598/70256466-14598694.pdf?src-supplier=Allied+Electronics; ComponentLink3Description: https://datasheet.ciiva.com/14598/70256466-14598694.pdf?src-supplier=Allied+Electronics; ComponentLink4URL: https://datasheet.ciiva.com/48483/aba0000ce88-48483382.pdf?src-supplier=Avnet; ComponentLink4Description: https://datasheet.ciiva.com/48483/aba0000ce88-48483382.pdf?src-supplier=Avnet; ComponentLink5URL: https://datasheet.ciiva.com/17532/aba0000ce88-17532474.pdf?src-supplier=Avnet+Europe; ComponentLink5Description: https://datasheet.ciiva.com/17532/aba0000ce88-17532474.pdf?src-supplier=Avnet+Europe; ComponentLink6URL: https://datasheet.ciiva.com/46372/1726499-46372458.pdf?src-supplier=Element14; ComponentLink6Description: https://datasheet.ciiva.com/46372/1726499-46372458.pdf?src-supplier=Element14; ComponentLink7URL: https://datasheet.ciiva.com/11678/aba0000ce88-11678270.pdf?src-supplier=Avnet; ComponentLink7Description: https://datasheet.ciiva.com/11678/aba0000ce88-11678270.pdf?src-supplier=Avnet; ComponentLink8URL: https://datasheet.ciiva.com/31417/1726499-31417534.pdf?src-supplier=Farnell; ComponentLink8Description: https://datasheet.ciiva.com/31417/1726499-31417534.pdf?src-supplier=Farnell; ComponentLink9URL: https://datasheet.ciiva.com/48524/fk-large-eng-tds-48524574.pdf?src-supplier=Distrelec; ComponentLink9Description: https://datasheet.ciiva.com/48524/fk-large-eng-tds-48524574.pdf?src-supplier=Distrelec; ComponentLink10URL: https://datasheet.ciiva.com/14603/70256466-14603807.pdf?src-supplier=Allied+Electronics; ComponentLink10Description: https://datasheet.ciiva.com/14603/70256466-14603807.pdf?src-supplier=Allied+Electronics; Supplier Part Number 1: PCE4850CT-ND
footprint EEE-FK1H471AM (CAP ALUM 470UF 20% 50V SMD)
pins: 1, 2

## EEEHAE220WAR
designator C?, comment 22uF
CAP ALUM 22UF 20% 25V SMD; Manufacturer: Panasonic; Manufacturer Part Number: EEE-HAE101XAP; Capacitance: 100uF; Ripple Current: 91mA; Life (Hours): 1000Hour; Leakage Current: 3uA; Supplier 1: Avnet; RoHS: Yes; Category: Aluminum Electrolytic Capacitors; Stock 1: 171900; Pricing 1: 900=0.09127, 1800=0.08978, 3600=0.08756, 5400=0.08607, 7200=0.08496, 9000=0.08385, 90000=0.08162 (USD); Mount: Surface Mount,PCB; Case/Package: Radial; Contact Plating: Tin; Min Operating Temperature: -40°C; Max Operating Temperature: 105°C; Tolerance: 20%; Voltage Rating: 25V; Packaging: Tape and Reel; Voltage Rating (DC): 25V; Package Quantity: 1; Termination: SMD/SMT; Series: HA; Construction: Cylindrical; Voltage: 25V; Ripple Current (AC): 91mA; Diameter: 6.3mm; Length: 8mm; Height: 7.7mm; Height - Seated (Max): 0.303inch; Radiation Hardening: No; RoHS Compliant: Yes; REACH SVHC: Unknown; Lead Free: Lead Free; ComponentLink1URL: https://datasheet.ciiva.com/2985/aba0000ce3-2985777.pdf?src-supplier=Avnet; ComponentLink1Description: https://datasheet.ciiva.com/2985/aba0000ce3-2985777.pdf?src-supplier=Avnet; ComponentLink2URL: https://datasheet.ciiva.com/2985/aba0000ce3-2985778.pdf?src-supplier=Avnet; ComponentLink2Description: https://datasheet.ciiva.com/2985/aba0000ce3-2985778.pdf?src-supplier=Avnet; ComponentLink3URL: https://datasheet.ciiva.com/30069/aba0000ce3-30069976.pdf?src-supplier=Onlinecomponents.com; ComponentLink3Description: https://datasheet.ciiva.com/30069/aba0000ce3-30069976.pdf?src-supplier=Onlinecomponents.com; ComponentLink4URL: https://datasheet.ciiva.com/17535/aba0000ce3-17535833.pdf?src-supplier=Avnet+Europe; ComponentLink4Description: https://datasheet.ciiva.com/17535/aba0000ce3-17535833.pdf?src-supplier=Avnet+Europe; ComponentLink5URL: https://datasheet.ciiva.com/24228/aba0000ce3-259063-24228345.pdf?src-supplier=Mouser; ComponentLink5Description: https://datasheet.ciiva.com/24228/aba0000ce3-259063-24228345.pdf?src-supplier=Mouser; ComponentLink6URL: https://datasheet.ciiva.com/46379/1790621-46379116.pdf?src-supplier=Element14; ComponentLink6Description: https://datasheet.ciiva.com/46379/1790621-46379116.pdf?src-supplier=Element14; ComponentLink7URL: https://datasheet.ciiva.com/14602/70258416-14602846.pdf?src-supplier=Allied+Electronics; ComponentLink7Description: https://datasheet.ciiva.com/14602/70258416-14602846.pdf?src-supplier=Allied+Electronics; ComponentLink8URL: https://datasheet.ciiva.com/31418/1790621-31418318.pdf?src-supplier=Farnell; ComponentLink8Description: https://datasheet.ciiva.com/31418/1790621-31418318.pdf?src-supplier=Farnell; Supplier Part Number 1: EEE-HAE101XAP
footprint EEE-HAE220WAR (CAP ALUM 22UF 20% 25V SMD)
pins: 1, 2

## ERA3AEB5112V
designator R?, comment 51.1K
Res SMD 0603 51.1K Ohm 0.1% 1/10W; Manufacturer: Panasonic; Manufacturer Part Number: ERA-3AEB5112V; Resistance: 51.1kR; Temperature Coefficient: 25ppm/°C; Power Rating: 100mW; Voltage Rating: 150V; Voltage Rating (DC): 75V; Supplier 1: Future Electronics; RoHS: Yes; Category: Chip SMD Resistors; Stock 1: 5000; Pricing 1: 5000=0.04010, 10000=0.03280, 15000=0.03250, 20000=0.03230, 25000=0.03210 (USD); Mount: Surface Mount; Case/Package: 0603; Number of Pins: 2; Contact Plating: Tin; Case Code (Metric): 1608; Case Code (Imperial): 0603; Min Operating Temperature: -55°C; Max Operating Temperature: 155°C; Tolerance: 0.1%; Resistor Type: Thin Film,Metal Film; Packaging: Tape and Reel; Package Quantity: 5000; Number of Terminations: 2; Max Power Dissipation: 100mW; Features: Automotive AEC-Q200; Length: 1.6mm; Width: 0.8mm; Height: 0.45mm; Depth: 0.8mm; Radiation Hardening: No; Military Standard: Not; Lead Free: Lead Free; ComponentLink1URL: https://datasheet.ciiva.com/11810/0900766b80eb1d8c-11810561.pdf?src-supplier=RSComponents; ComponentLink1Description: https://datasheet.ciiva.com/11810/0900766b80eb1d8c-11810561.pdf?src-supplier=RSComponents; ComponentLink2URL: https://datasheet.ciiva.com/30178/54aoa0000ce26-30178106.pdf?src-supplier=Onlinecomponents.com; ComponentLink2Description: https://datasheet.ciiva.com/30178/54aoa0000ce26-30178106.pdf?src-supplier=Onlinecomponents.com; ComponentLink3URL: https://datasheet.ciiva.com/9189/aoa0000ce26-9189019.pdf?src-supplier=Avnet; ComponentLink3Description: https://datasheet.ciiva.com/9189/aoa0000ce26-9189019.pdf?src-supplier=Avnet; ComponentLink4URL: https://datasheet.ciiva.com/5968/485442-5968877.pdf?src-supplier=Farnell; ComponentLink4Description: https://datasheet.ciiva.com/5968/485442-5968877.pdf?src-supplier=Farnell; ComponentLink5URL: https://datasheet.ciiva.com/7861/485442-7861694.pdf?src-supplier=Element14; ComponentLink5Description: https://datasheet.ciiva.com/7861/485442-7861694.pdf?src-supplier=Element14; ComponentLink6URL: https://datasheet.ciiva.com/5968/485442-5968879.pdf?src-supplier=Farnell; ComponentLink6Description: https://datasheet.ciiva.com/5968/485442-5968879.pdf?src-supplier=Farnell; ComponentLink7URL: https://datasheet.ciiva.com/7861/485442-7861695.pdf?src-supplier=Element14; ComponentLink7Description: https://datasheet.ciiva.com/7861/485442-7861695.pdf?src-supplier=Element14; ComponentLink8URL: https://datasheet.ciiva.com/41450/001180914-da-01-en-widerstand-era-0603-51k1-0-1-5000st-41450231.pdf?src-supplier=Conrad; ComponentLink8Description: https://datasheet.ciiva.com/41450/001180914-da-01-en-widerstand-era-0603-51k1-0-1-5000st-41450231.pdf?src-supplier=Conrad; Supplier Part Number 1: 4064227
footprint Res0603
pins: 1, 2

## ERA-1AEB512C
designator R?, comment 5.1K
RES 5.1K OHM 0.1% 1/20W 0201; Manufacturer: Cliff; Manufacturer Part Number: ERA-1AEB512C; Resistance: 5100R; Supplier 1: Digi-Key; RoHS: No; Category: Resistors; Stock 1: 14930; Pricing 1: 1=0.36000, 10=0.27700, 100=0.11630, 1000=0.06416, 2500=0.06015, 5000=0.05414 (USD); Case/Package: 0201; Supplier Part Number 1: 10-ERA-1AEB512CCT-ND
footprint Res-0201
pins: 1, 2

## ERJ1GNF1200C
designator R?, comment 120R
RES SMD 120 OHM 1% 1/20W 0201; Manufacturer: Panasonic; Manufacturer Part Number: ERJ-1GNF1200C; Temperature Coefficient: 200ppm/°C; Power Rating: 50mW; Voltage Rating: 25V; Supplier 1: Digi-Key; RoHS: Yes; Category: Chip SMD Resistors; Stock 1: 28880; Pricing 1: 1=0.10000, 10=0.05300, 100=0.02170, 1000=0.00975, 2500=0.00846, 5000=0.00699 (USD); Mount: Surface Mount; Case/Package: 0201; Number of Pins: 2; Contact Plating: Tin,Matte; Case Code (Imperial): 0201; Case Code (Metric): 0603; Min Operating Temperature: -55°C; Max Operating Temperature: 125°C; Resistance: 120R; Tolerance: 1%; Resistor Type: Thick Film; Packaging: Tape and Reel; Package Quantity: 15000; Termination: SMD/SMT; Number of Terminations: 2; Max Power Dissipation: 50mW; Voltage Rating (DC): 25V; Length: 0.6mm; Width: 0.3mm; Height: 0.01inch; Radiation Hardening: No; REACH SVHC: Unknown; ComponentLink1URL: https://datasheet.ciiva.com/22737/1678782-22737270.pdf?src-supplier=Element14; ComponentLink1Description: https://datasheet.ciiva.com/22737/1678782-22737270.pdf?src-supplier=Element14; ComponentLink2URL: https://datasheet.ciiva.com/43467/1678782-43467032.pdf?src-supplier=Farnell; ComponentLink2Description: https://datasheet.ciiva.com/43467/1678782-43467032.pdf?src-supplier=Farnell; ComponentLink3URL: https://datasheet.ciiva.com/22673/1678782-22673662.pdf?src-supplier=Element14; ComponentLink3Description: https://datasheet.ciiva.com/22673/1678782-22673662.pdf?src-supplier=Element14; Supplier Part Number 1: P122692CT-ND
footprint Res-0201
pins: 1, 2

## ERJ3EKF46R4V
designator R?, comment 46R6
Res SMD 0603 46.4 Ohm 1% 1/10W; Manufacturer: Panasonic; Manufacturer Part Number: ERJ-3EKF46R4V; Resistance: 46.4R; Power Rating: 100mW; Voltage Rating: 75V; Temperature Coefficient: 100ppm/°C; Voltage Rating (DC): 50V; Supplier 1: Digi-Key; RoHS: Yes; Category: Chip SMD Resistors; Stock 1: 15635; Pricing 1: 1=0.10000, 10=0.02000, 100=0.00810, 1000=0.00363, 2500=0.00315 (USD); Mount: Surface Mount; Case/Package: 0603; Case Code (Imperial): 0603; Case Code (Metric): 1608; Weight: 7.1E-05oz; Contact Plating: Tin; Min Operating Temperature: -55°C; Max Operating Temperature: 155°C; Tolerance: 1%; Packaging: Tape and Reel; Package Quantity: 1; Resistor Type: Thick Film; Termination: SMD/SMT; Number of Terminations: 2; Max Power Dissipation: 100mW; Features: Automotive AEC-Q200; Series: ERJ; Resistance Tolerance: 1%; Construction: Rectangular; Length: 1.6mm; Width: 0.8mm; Height: 0.022inch; Depth: 0.8mm; REACH SVHC: Yes; Military Standard: Not; RoHS Compliant: Yes; ComponentLink1URL: https://datasheet.ciiva.com/46440/1678782-46440710.pdf?src-supplier=Element14; ComponentLink1Description: https://datasheet.ciiva.com/46440/1678782-46440710.pdf?src-supplier=Element14; ComponentLink2URL: https://datasheet.ciiva.com/9189/aoa0000ce2-9189370.pdf?src-supplier=Avnet; ComponentLink2Description: https://datasheet.ciiva.com/9189/aoa0000ce2-9189370.pdf?src-supplier=Avnet; ComponentLink3URL: https://datasheet.ciiva.com/22741/1678782-22741965.pdf?src-supplier=Element14; ComponentLink3Description: https://datasheet.ciiva.com/22741/1678782-22741965.pdf?src-supplier=Element14; ComponentLink4URL: https://datasheet.ciiva.com/22676/1678782-22676670.pdf?src-supplier=Element14; ComponentLink4Description: https://datasheet.ciiva.com/22676/1678782-22676670.pdf?src-supplier=Element14; Supplier Part Number 1: P46.4HCT-ND
footprint Res0603
pins: 1, 2